# Altium footprint library Motion Controller.PcbLib: 208 footprints (part 9 of 13)
Each footprint in its own frame and in the unit in brackets; x right, y up, seen from the top. Pads: shape width x height; smd on the part's side, far side on the other; paste and mask are expansions set on the pad; w line width, h text height; cw(c..) or ccw(c..) is an arc to the next point about the centre after c.
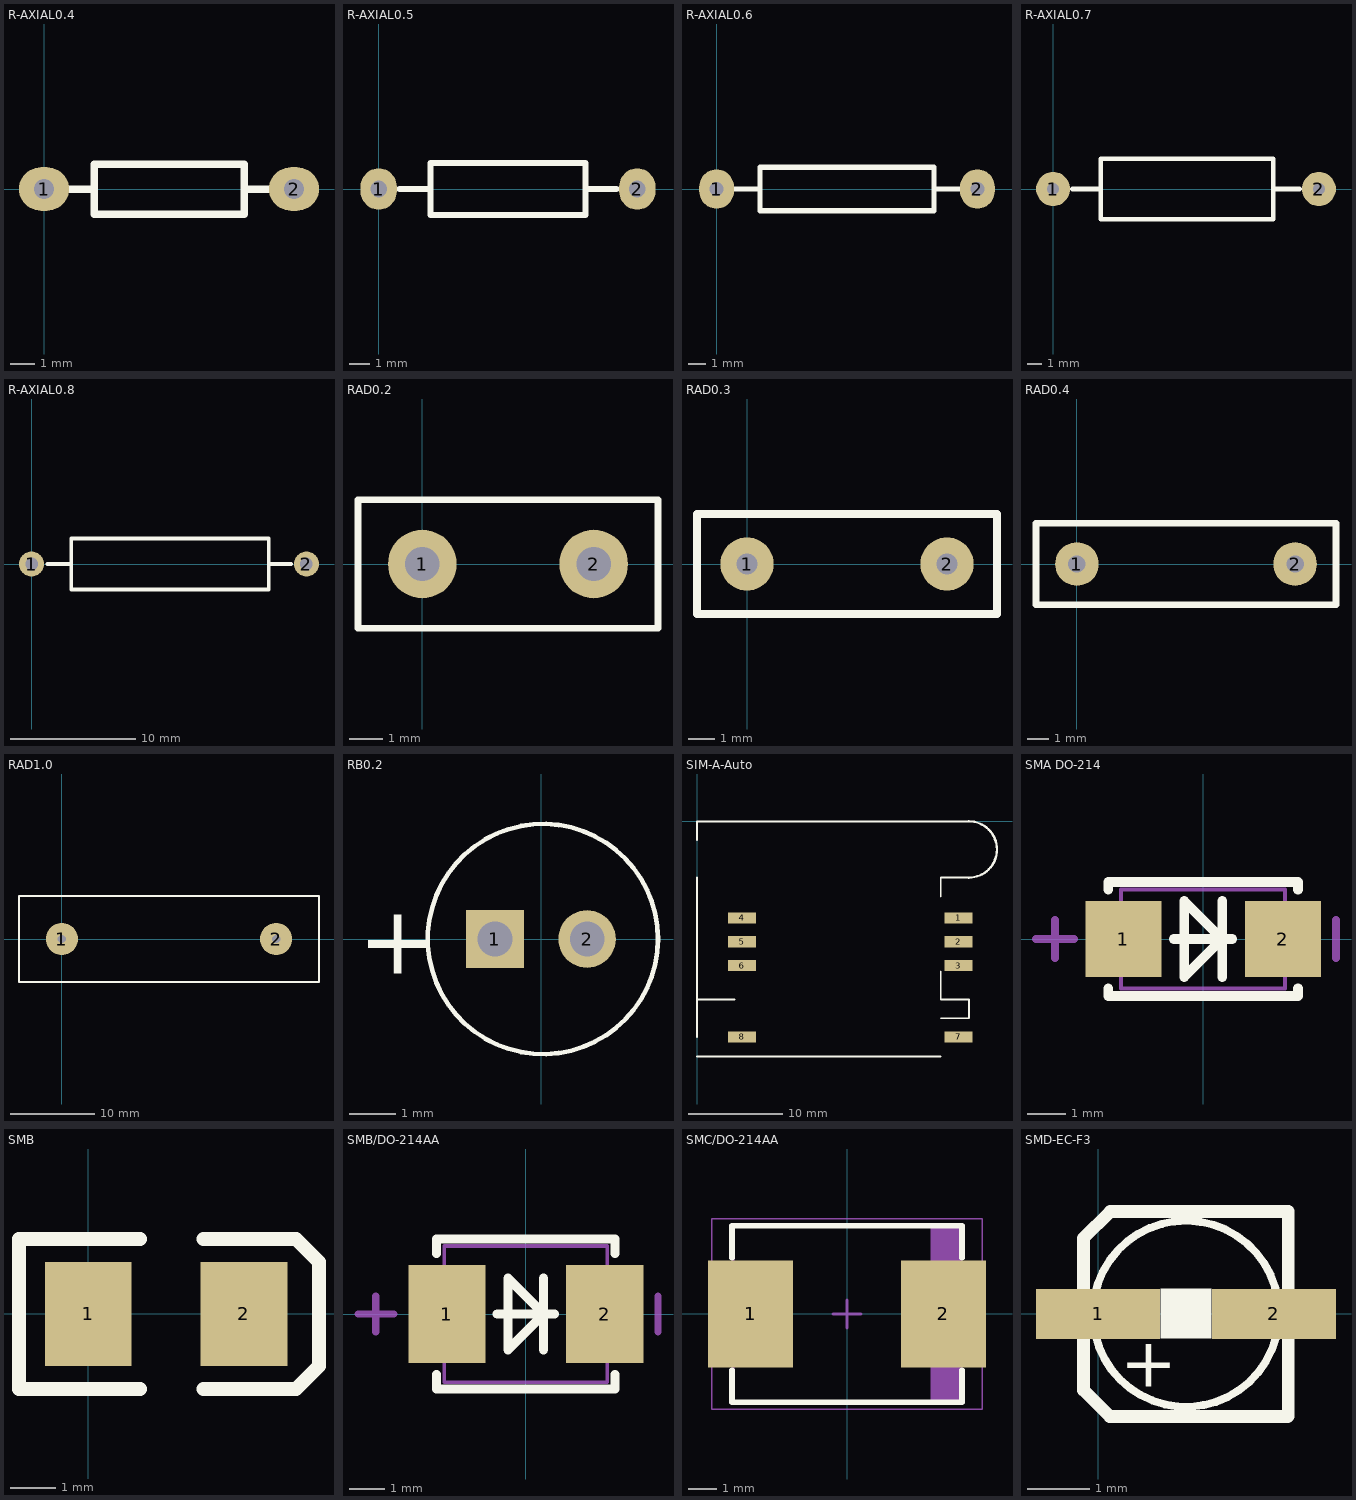
[diagram p8: the footprints below, top view; thin cyan lines are the x and y axes]

## R-AXIAL0.4 [mil]
pads (2):
  oval 80x70 hole 32: 1(0,0) 2(400,0)
Top Overlay:
  lines w12: 40,0 80,0 ; 320,0 360,0 ; 80,-40 80,40 320,40 320,-40 80,-40

## R-AXIAL0.5 [mil]
pads (2):
  oval 70x80 hole 32: 1(0,0) 2(500,0)
Top Overlay:
  lines w12: 40,0 100,0 ; 400,0 460,0 ; 100,-50 100,50 400,50 400,-50 100,-50

## R-AXIAL0.6 [mil]
pads (2):
  oval 80x90 hole 32: 1(0,0) 2(600,0)
Top Overlay:
  lines w12: 40,0 100,0 ; 500,0 560,0 ; 100,-50 100,50 500,50 500,-50 100,-50

## R-AXIAL0.7 [mil]
pads (2):
  round 90 hole 32: 1(0,0) 2(700,0)
Top Overlay:
  lines w12: 50,0 120,0 ; 580,0 650,0 ; 125,-80 580,-80 580,80 125,80 125,-80

## R-AXIAL0.8 [mm]
pads (2):
  round 2 hole 1: 1(0,0) 2(22,0)
Top Overlay:
  lines w0.305: 1.27,0 3.048,0 ; 18.948,2.032 3.175,2.032 3.175,-2.032 18.974,-2.032 18.974,2.032 ; 18.974,0 20.752,0

## RAD0.2 [mil]
pads (2):
  round 80 hole 40: 1(0,0) 2(200,0)
Top Overlay:
  lines w8: -75,-75 275,-75 275,75 -75,75 -75,-75

## RAD0.3 [mil]
pads (2):
  round 80 hole 32: 1(0,0) 2(300,0)
Top Overlay:
  lines w12: -75,-75 375,-75 375,75 -75,75 -75,-75

## RAD0.4 [mil]
pads (2):
  round 80 hole 32: 1(0,0) 2(400,0)
Top Overlay:
  lines w12: -75,-75 475,-75 475,75 -75,75 -75,-75

## RAD1.0 [mil]
pads (2):
  round 150 hole 39: 1(0,0) 2(1000,0)
Top Overlay:
  lines w10: -200,-200 -200,200 0,200 1000,200 1200,200 1200,-200 1000,-200 0,-200 -200,-200

## RB0.2 [mm]
pads (2):
  rect 1.25x1.25 hole 0.75: 1(-1,0)
  round 1.25 hole 0.75: 2(1,0)
Top Overlay:
  circle w0.1: c0.04,0 r2.5
  text "+" at -3.975,-0.75 h1.5

## SIM-A-Auto [mm]
pads (8):
  rect 3x1.2 smd: 1(27.9,-10.3) 2(27.9,-12.84) 3(27.9,-15.38) 4(4.8,-10.3) 5(4.8,-12.84) 6(4.8,-15.38) 7(27.9,-23) 8(4.8,-23)
Top Overlay:
  lines w0.2: 0,-25.1 26,-25.1 ; 0,-23 0,-6 ; 0,-19 4,-19 ; 0,-2 0,0 29,0 ; 26,-21 29,-21 29,-19 26,-19 26,-16 ; 26,-8 26,-6 29,-6
  lines w0.254: 29,-6 ccw(c29,-3) 29,0

## SMA DO-214 [mm]
pads (2):
  rect 2x2 smd: 1(-2.1,0) 2(2.1,0)
Top Overlay:
  lines w0.254: -2.5,-1.3 -2.5,-1.5 2.5,-1.5 2.5,-1.3 ; -2.5,1.3 -2.5,1.5 2.5,1.5 2.5,1.3 ; -0.77,0 0.77,0 ; 0.5,-1 0.5,1 ; -0.5,-1 -0.5,1 0.5,0 -0.5,-1
Mechanical 13:
  lines w0.1: -2.16,-1.3 2.16,-1.3 2.16,1.3 -2.16,1.3 -2.16,-1.3
Mechanical 15:
  lines w0.203: -4.4,0 -3.4,0 ; -3.9,-0.5 -3.9,0.5 ; 3.5,-0.5 3.5,0.5

## SMB [mil]
pads (2):
  rect 75x90 smd: 1(0,0) 2(135,0)
Top Overlay:
  lines w12: 45,-65 -60,-65 -60,65 45,65 ; 100,-65 180,-65 200,-45 200,45 180,65 100,65

## SMB/DO-214AA [mm]
height 2.2
pads (2):
  rect 2.159x2.743 smd: 1(-2.21,0) 2(2.21,0)
Top Overlay:
  lines w0.254: -2.5,-1.7 -2.5,-2.1 2.5,-2.1 2.5,-1.7 ; -2.5,1.7 -2.5,2.1 2.5,2.1 2.5,1.7 ; -0.8,0 0.8,0 ; 0.5,-1 0.5,1 ; -0.5,-1 0.5,0 -0.5,1 -0.5,-1
Mechanical 13:
  lines w0.1: -2.285,-1.905 2.285,-1.905 2.285,1.905 -2.285,1.905 -2.285,-1.905
Mechanical 15:
  lines w0.203: -4.7,0 -3.7,0 ; -4.2,-0.5 -4.2,0.5 ; 3.7,-0.5 3.7,0.5

## SMC/DO-214AA [mm]
height 2.5
pads (2):
  rect 3.04x3.82 smd: 1(-3.44,0) 2(3.44,0)
Top Overlay:
  lines w0.2: -4.1,-2 -4.1,-3.15 4.1,-3.15 4.1,-2 ; -4.1,2 -4.1,3.15 4.1,3.15 4.1,2
Mechanical 13:
  rectangle: 2.972,-3.11 4.065,3.11
  lines w0.1: -4.065,-3.11 4.065,-3.11 4.065,3.11 -4.065,3.11 -4.065,-3.11
Mechanical 15:
  lines w0.05: -4.825,-3.4 4.825,-3.4 4.825,3.4 -4.825,3.4 -4.825,-3.4
  lines w0.1: -0.5,0 0.5,0 ; 0,-0.5 0,0.5
3D body: height 2.5, standoff 0, extent -4.065,-3.11 4.065,3.11

## SMD-EC-F3 [mm]
pads (2):
  rect 2x0.8 smd: 1(0,0) 2(2.835,0)
Top Overlay:
  rectangle: 1.003,-0.399 1.832,0.407
  lines w0.127: 2.777,0.636 ccw(c1.417,0.003) 2.777,0.634
  lines w0.203: 0.19,1.646 -0.234,1.222 -0.234,-1.229 0.19,-1.653 3.059,-1.653 ; 0.195,1.651 3.066,1.651 3.066,-1.647
  text "+" at 0.361,-1.174 h0.8